# Altium footprint library inductor.PcbLib: 48 footprints (part 2 of 3)
Each footprint in its own frame and in the unit in brackets; x right, y up, seen from the top. Pads: shape width x height; smd on the part's side, far side on the other; paste and mask are expansions set on the pad; w line width, h text height; cw(c..) or ccw(c..) is an arc to the next point about the centre after c.
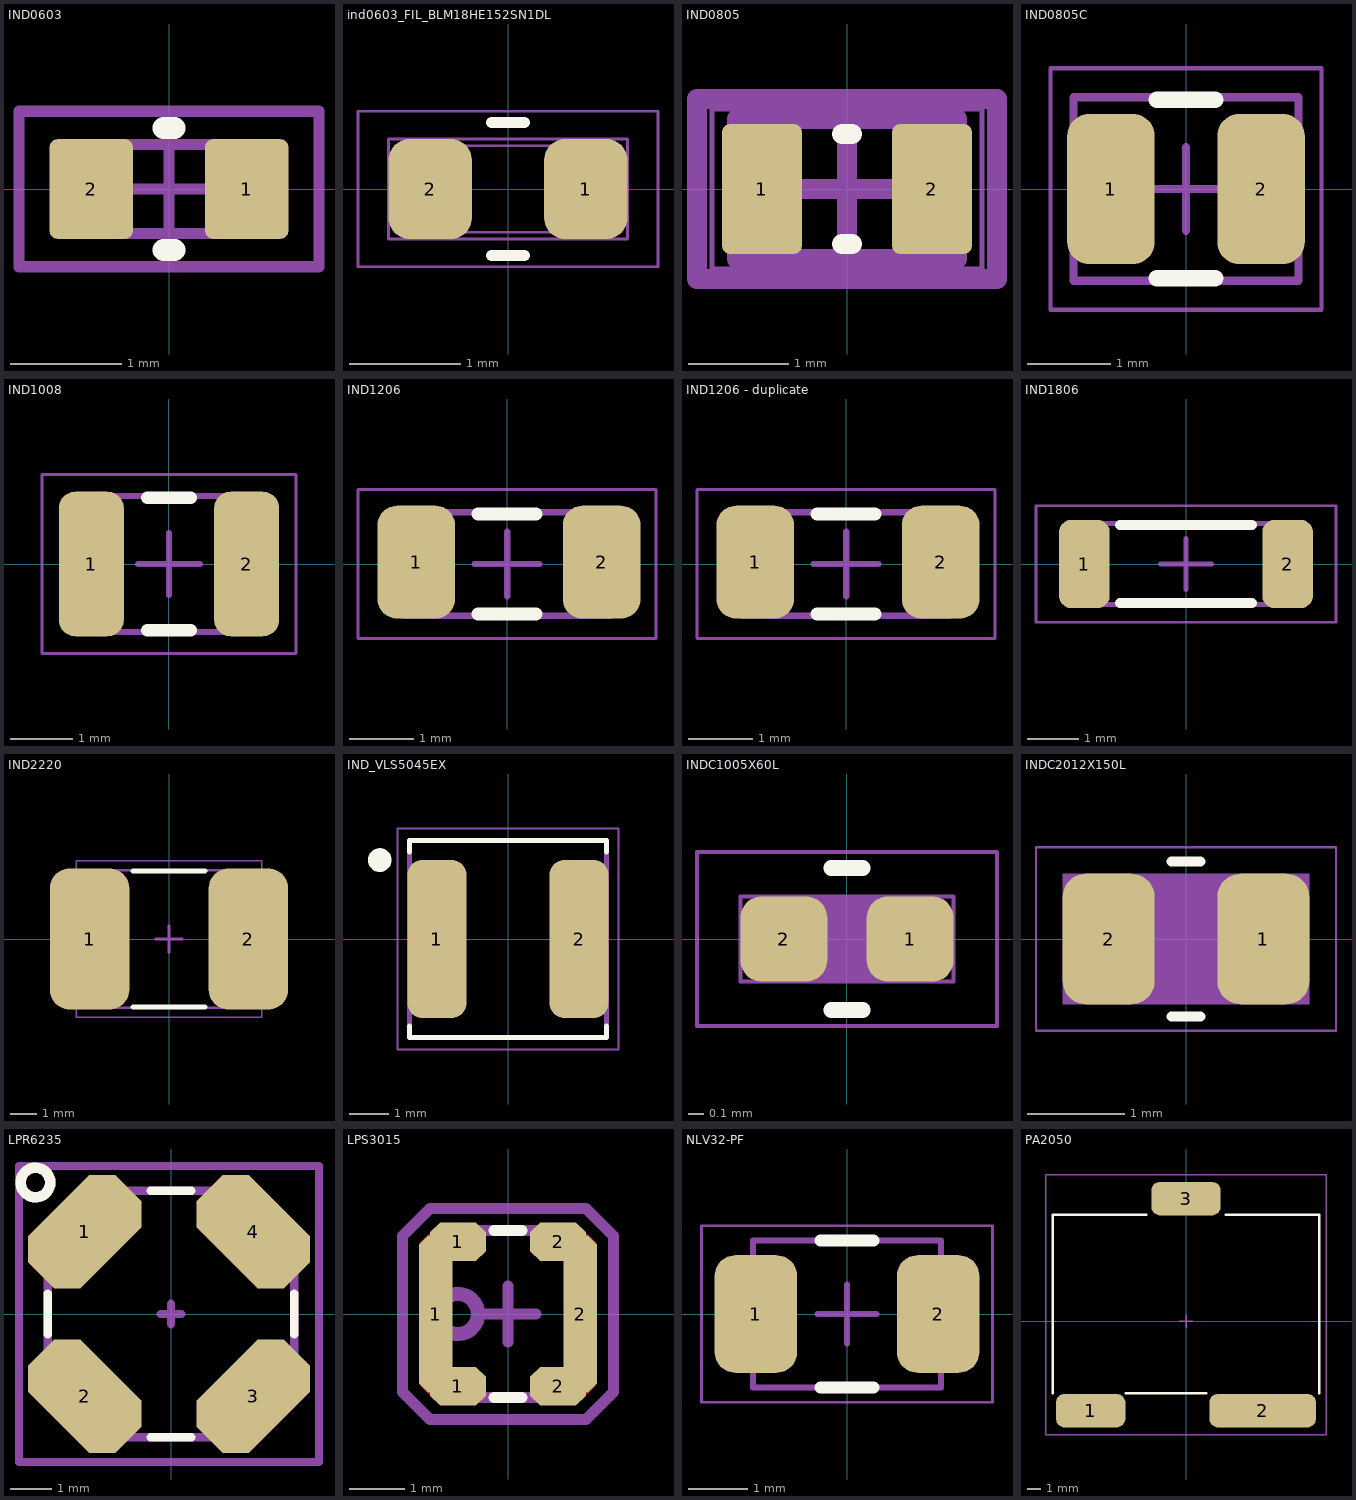
[diagram p1: the footprints below, top view; thin cyan lines are the x and y axes]

## IND0603 [mm]
pads (2):
  rrect20% 0.75x0.9 smd: 1(0.7,0) 2(-0.7,0)
Top Overlay:
  lines w0.2: -0.05,-0.55 0.05,-0.55 -0.05,-0.55 ; -0.05,0.55 0.05,0.55 -0.05,0.55
M3_comm_top:
  text ".comment" at -0.9,-0.3 h1
M5_asm_top:
  lines w0.1: -0.9,-0.4 -0.9,0.4 0.9,0.4 0.9,-0.4 -0.9,-0.4
  text ".Designator" at -1,1.3 h1
M7_courtyard_top:
  lines w0.1: -0.5,0 0.5,0 ; 0,-0.5 0,0.5 ; -1.35,-0.7 -1.35,0.7 1.35,0.7 1.35,-0.7 -1.35,-0.7
3D body "INDC1608X___.step": height 0.5, standoff 0, extent -0.8,-0.4 0.8,0.4

## ind0603_FIL_BLM18HE152SN1DL [mm] "FIL_BLM18HE152SN1DL"
pads (2):
  rrect50% 0.75x0.9 smd: 1(0.7,0) 2(-0.7,0)
Top Overlay:
  lines w0.1: -0.15,-0.6 0.15,-0.6 ; -0.15,0.6 0.15,0.6
M11_dimension:
  text "2" at -0.7,0.08 h0.2
  text "1" at 0.7,0.08 h0.2
Mechanical 16:
  lines w0.025: -0.8,-0.4 -0.45,-0.4 ; -0.8,-0.4 -0.8,0.4 ; -0.8,-0.4 -0.45,-0.4 ; -0.8,-0.4 -0.8,0.4 ; -0.8,0.4 -0.45,0.4 ; -0.8,0.4 -0.45,0.4 ; -0.45,-0.4 -0.45,0.4 ; -0.45,-0.4 -0.45,0.4 ; -0.45,-0.39 0.45,-0.39 ; -0.45,-0.39 -0.45,0.39 ; -0.45,-0.39 0.45,-0.39 ; -0.45,-0.39 -0.45,0.39 ; -0.45,0.39 0.45,0.39 ; -0.45,0.39 0.45,0.39 ; 0.45,-0.4 0.8,-0.4 ; 0.45,-0.4 0.45,0.4 ; 0.45,-0.4 0.8,-0.4 ; 0.45,-0.4 0.45,0.4 ; 0.45,-0.39 0.45,0.39 ; 0.45,-0.39 0.45,0.39 ; 0.45,0.4 0.8,0.4 ; 0.45,0.4 0.8,0.4 ; 0.8,-0.4 0.8,0.4 ; 0.8,-0.4 0.8,0.4 ; -1.35,-0.7 -1.35,0.7 1.35,0.7 1.35,-0.7 -1.35,-0.7 ; -1.075,-0.45 1.075,-0.45 1.075,0.45 -1.075,0.45 -1.075,-0.45
Mechanical 17:
  text "COPYRIGHTS 2011 @ DYNAMIC-PRECISION" at 2.95,-0.9 h0.2
Mechanical 18:
  text "ROBERT GABRYSIAK" at 1.4,-0.26 h0.2
Mechanical 19:
  text "JOHAN ANDERSSON" at 1.36,0.02 h0.2
Mechanical 20:
  text "2009-09-17" at 0.84,0.33 h0.2
3D body "INDC1608X___.step": height 0.5, standoff 0, extent -0.8,-0.4 0.8,0.4

## IND0805 [mm] "Chip Resistor, IPC High Density"
height 0.5
pads (2):
  rrect20% 0.8x1.3 smd mask+0.05: 1(-0.85,0) 2(0.85,0)
Top Overlay:
  lines w0.2: -0.05,-0.55 0.05,-0.55 -0.05,-0.55 ; -0.05,0.55 0.05,0.55 -0.05,0.55
M3_comm_top:
  text ".comment" at -0.9,-0.3 h1
M5_asm_top:
  lines w0.2: -1.1,-0.7 -1.1,0.7 1.1,0.7 1.1,-0.7 -1.1,-0.7
  text ".Designator" at -1,1.3 h1
M7_courtyard_top:
  lines w0.2: -0.5,0 0.5,0 ; 0,-0.5 0,0.5 ; -1.5,-0.9 -1.5,0.9 1.5,0.9 1.5,-0.9 -1.5,-0.9
Mechanical 13:
  lines w0.1: -1.1,-0.7 -1.1,0.7 1.1,0.7 1.1,-0.7 -1.1,-0.7
Mechanical 15:
  lines w0.05: -1.35,-0.8 -1.35,0.8 1.35,0.8 1.35,-0.8 -1.35,-0.8
  lines w0.1: -0.5,0 0.5,0 ; 0,-0.5 0,0.5
3D body "User Library-User Library-Chip InductorINDC2012X130N.step": height 1.2, standoff 0, extent -1,-0.65 1,0.65

## IND0805C [mm] "744760218C, CW201212-R18J"
height 1
pads (2):
  rrect50% 1.05x1.8 smd: 1(-0.9,0) 2(0.9,0)
Top Overlay:
  lines w0.2: -0.35,-1.07 0.35,-1.07 ; -0.35,1.07 0.35,1.07
Mechanical 13:
  lines w0.1: -1.35,-1.1 1.35,-1.1 1.35,1.1 -1.35,1.1 -1.35,-1.1
Mechanical 15:
  lines w0.05: -1.625,-1.45 1.625,-1.45 1.625,1.45 -1.625,1.45 -1.625,-1.45
  lines w0.1: -0.5,0 0.5,0 ; 0,-0.5 0,0.5
3D body "WE-KI-0805C-rev1.stp": height 1.31, standoff -0.01, extent -1.14,-0.85 1.14,0.85

## IND1008 [mm] "1008 (2520 Metric), IPC Medium Density"
height 1
pads (2):
  rrect50% 1.05x2.34 smd: 1(-1.255,0) 2(1.255,0)
Top Overlay:
  lines w0.2: -0.35,-1.07 0.35,-1.07 ; -0.35,1.07 0.35,1.07
Mechanical 13:
  lines w0.1: -1.35,-1.1 1.35,-1.1 1.35,1.1 -1.35,1.1 -1.35,-1.1
Mechanical 15:
  lines w0.05: -2.05,-1.45 2.05,-1.45 2.05,1.45 -2.05,1.45 -2.05,-1.45
  lines w0.1: -0.5,0 0.5,0 ; 0,-0.5 0,0.5
3D body "IND1008.step": height 1, standoff 0, extent -1.35,-1.1 1.35,1.1

## IND1206 [mm] "Chip Inductor, IPC Medium Density"
height 1.1
pads (2):
  rrect50% 1.2x1.74 smd: 1(-1.4,0.03) 2(1.46,0.03)
Top Overlay:
  lines w0.2: -0.45,-0.77 0.45,-0.77 ; -0.45,0.77 0.45,0.77
Mechanical 13:
  lines w0.1: -1.6,-0.8 1.6,-0.8 1.6,0.8 -1.6,0.8 -1.6,-0.8
Mechanical 15:
  lines w0.05: -2.3,-1.15 2.3,-1.15 2.3,1.15 -2.3,1.15 -2.3,-1.15
  lines w0.1: -0.5,0 0.5,0 ; 0,-0.5 0,0.5
3D body: height 1.1, standoff 0, extent -0.87,-0.77 0.93,0.83
3D body: height 1.1, standoff 0, extent 0.93,-0.77 1.63,0.83
3D body: height 1.1, standoff 0, extent -1.57,-0.77 -0.87,0.83

## IND1206 - duplicate [mm] "Chip Inductor, IPC Medium Density"
height 1.1
pads (2):
  rrect50% 1.2x1.74 smd: 1(-1.4,0.03) 2(1.46,0.03)
Top Overlay:
  lines w0.2: -0.45,-0.77 0.45,-0.77 ; -0.45,0.77 0.45,0.77
Mechanical 13:
  lines w0.1: -1.6,-0.8 -1.6,0.8 1.6,0.8 1.6,-0.8 -1.6,-0.8
Mechanical 15:
  lines w0.05: -2.3,-1.15 -2.3,1.15 2.3,1.15 2.3,-1.15 -2.3,-1.15
  lines w0.1: -0.5,0 0.5,0 ; 0,-0.5 0,0.5
3D body: height 1.1, standoff 0, extent -1.57,-0.77 -0.87,0.83
3D body: height 1.1, standoff 0, extent 0.93,-0.77 1.63,0.83
3D body: height 1.1, standoff 0, extent -0.87,-0.77 0.93,0.83

## IND1806 [mm] "Chip Inductor, IPC Medium Density"
height 1.6
pads (2):
  rrect50% 1x1.74 smd: 1(-2,0) 2(2,0)
Top Overlay:
  lines w0.2: -1.3,-0.77 1.3,-0.77 ; -1.3,0.77 1.3,0.77
Mechanical 13:
  lines w0.1: -2.25,-0.8 2.25,-0.8 2.25,0.8 -2.25,0.8 -2.25,-0.8
Mechanical 15:
  lines w0.05: -2.95,-1.15 2.95,-1.15 2.95,1.15 -2.95,1.15 -2.95,-1.15
  lines w0.1: -0.5,0 0.5,0 ; 0,-0.5 0,0.5
3D body "1806.step": height 1.65, standoff 0.05, extent -2.25,-0.8 2.25,0.8

## IND2220 [mm] "Chip Inductor, IPC Medium Density"
height 3.5
pads (2):
  rrect50% 3x5.34 smd: 1(-3,0) 2(3,0)
Top Overlay:
  lines w0.2: -1.35,-2.57 1.35,-2.57 ; -1.35,2.57 1.35,2.57
Mechanical 13:
  lines w0.1: -2.8,-2.6 -2.8,2.6 2.8,2.6 2.8,-2.6 -2.8,-2.6
Mechanical 15:
  lines w0.05: -3.5,-2.95 -3.5,2.95 3.5,2.95 3.5,-2.95 -3.5,-2.95
  lines w0.1: -0.5,0 0.5,0 ; 0,-0.5 0,0.5
3D body "2220.step": height 1.8, standoff 0, extent -2.85,-2.5 2.85,2.5

## IND_VLS5045EX [mm]
pads (2):
  rrect50% 1.5x4 smd: 1(-1.8,0) 2(1.8,0)
Top Overlay:
  circle w0.3: c-3.25,2 r0.15
  lines w0.127: -2.5,-2.2 -2.5,-2.5 2.5,-2.5 2.5,-2.2 ; -2.5,2.2 -2.5,2.5 2.5,2.5 2.5,2.2
M1_3D_TOP:
  lines w0.05: -2.8,-2.8 2.8,-2.8 2.8,2.8 -2.8,2.8 -2.8,-2.8
  lines w0.127: -2.5,-2.5 2.5,-2.5 2.5,2.5 -2.5,2.5 -2.5,-2.5
3D body: height 4.5, standoff 0, extent -2.5,-2.5 2.5,2.5

## INDC1005X60L [mm] "INDC1005X60L"
pads (2):
  rrect50% 0.55x0.54 smd: 1(0.4,0) 2(-0.4,0)
Top Overlay:
  lines w0.1: -0.1,-0.45 0.1,-0.45 ; -0.1,0.45 0.1,0.45
M11_dimension:
  text "1" at 0.39,0.13 h0.2
  text "2" at -0.4,0.14 h0.2
Mechanical 16:
  region: 0.5,-0.25 0.5,0.25 -0.5,0.25 -0.5,-0.25
  lines w0.025: -0.25,-0.25 -0.25,0.25 ; -0.25,-0.25 -0.2,-0.25 0.2,-0.25 0.25,-0.25 ; -0.25,-0.25 -0.5,-0.25 -0.5,0.25 -0.25,0.25 ; -0.25,0.25 -0.2,0.25 0.2,0.25 0.25,0.25 ; 0.25,-0.25 0.25,0.25 ; 0.25,-0.25 0.5,-0.25 0.5,0.25 0.25,0.25 ; -0.95,-0.55 -0.95,0.55 0.95,0.55 0.95,-0.55 -0.95,-0.55 ; -0.675,-0.27 0.675,-0.27 0.675,0.27 -0.675,0.27 -0.675,-0.27
Mechanical 17:
  text "COPYRIGHTS 2011 @ DYNAMIC PRECISION" at 2.975,-0.65 h0.2
Mechanical 18:
  text "ROBERT GABRYSIAK" at 1.3,-0.21 h0.2
Mechanical 19:
  text "JOHAN ANDERSSON" at 1.3,0.04 h0.2
Mechanical 20:
  text "2009-09-17" at 0.83,0.35 h0.2
3D body "INDC1005X___.step": height 0.5, standoff 0, extent -0.5,-0.25 0.5,0.25

## INDC2012X150L [mm] "INDC2012X150L"
pads (2):
  rrect50% 0.95x1.35 smd: 1(0.8,0) 2(-0.8,0)
Top Overlay:
  lines w0.1: -0.15,-0.8 0.15,-0.8 ; -0.15,0.8 0.15,0.8
M11_dimension:
  text "2" at -0.88,0 h0.2
  text "1" at 0.72,0 h0.2
Mechanical 16:
  pour cut-out: 1.275,0.675 1.275,-0.675 -1.275,-0.675 -1.275,0.675
  region: 1,-0.625 1,0.625 -1,0.625 -1,-0.625
  lines w0.025: -0.5,-0.625 -0.5,0.625 ; 0.5,-0.625 0.5,0.625 ; -1.55,-0.95 -1.55,0.95 1.55,0.95 1.55,-0.95 -1.55,-0.95 ; -1,-0.625 -1,0.625 -0.6,0.625 0.6,0.625 1,0.625 1,-0.625 0.6,-0.625 -0.6,-0.625 -1,-0.625
Mechanical 17:
  text "COPYRIGHTS 2011 @ DYNAMIC PRECISION" at 2.975,-1.05 h0.2
Mechanical 18:
  text "ROBERT GABRYSIAK" at 1.39,-0.35 h0.2
Mechanical 19:
  text "JOHAN ANDERSSON" at 1.29,-0.03 h0.2
Mechanical 20:
  text "2009-09-18" at 1.41,0.8 h0.2
3D body "INDC2012X___.step": height 1.25, standoff 0, extent -1,-0.625 1,0.625

## LPR6235 [mm] "LPR6235"
height 1.4
pads (4):
  oct 1.8x3 smd rot 135: 1(-2.1,2) 3(2,-2)
  oct 1.8x3 smd rot 45: 2(-2.1,-2) 4(2,2)
Top Overlay:
  circle w0.254: c-3.3,3.2 r0.361
  lines w0.2: -3,-0.5 -3,0.5 ; -0.5,-3 0.5,-3 ; -0.5,3 0.5,3 ; 3,-0.5 3,0.5
M3_comm_top:
  text ".comment" at -0.9,-0.3 h1
M5_asm_top:
  circle w0.254: c-3.3,3.2 r0.361
  lines w0.2: -3,-2.1 -3,2.1 ; -3,-2.1 -2.1,-3 ; -3,-2.1 -2.1,-3 ; -3,2.1 -2.1,3 ; -3,2.1 -2.1,3 ; -2.1,-3 2.1,-3 3,-2.1 3,2.1 ; -2.1,3 2.1,3 ; 2.1,3 3,2.1 ; 2.1,3 3,2.1
  text ".Designator" at -1,4 h1
M7_courtyard_top:
  lines w0.2: -0.25,0 0.25,0 ; 0,-0.25 0,0.25 ; -3.7,-3.6 3.6,-3.6 3.6,3.6 -3.7,3.6 -3.7,-3.6
3D body "Coilcraft-LPR6235.step": height 3.35, standoff -0.15, extent -3.072,-3.037 3.008,3.043

## LPS3015 [mm] "LPS3015"
pads (6):
  oct 0.6x2.8 smd: 1(-1.3,0) 2(1.3,0)
  oct 1x0.7 smd: 1(-0.9,-1.3) 1(-0.9,1.3) 2(0.9,-1.3) 2(0.9,1.3)
Top Layer:
  lines w0.2: -1.5,-1.225 -1.2,-1.525 ; -1.5,1.225 -1.2,1.525 ; 1.2,-1.525 1.5,-1.225 ; 1.2,1.525 1.5,1.225
Top Overlay:
  lines w0.2: -0.25,-1.5 0.25,-1.5 ; -0.25,1.5 0.25,1.5
M3_comm_top:
  text ".comment" at -0.9,-0.3 h1
M5_asm_top:
  circle w0.254: c-0.9,0 r0.361
  lines w0.2: -1.5,-1 -1.5,1 -1,1.5 1,1.5 1.5,1 1.5,-1 1,-1.5 -1,-1.5 -1.5,-1
  text ".Designator" at -1.4,2 h1
M7_courtyard_top:
  lines w0.2: -0.5,0 0.5,0 ; 0,-0.5 0,0.5 ; -1.9,-1.4 -1.4,-1.9 1.4,-1.9 1.9,-1.4 1.9,1.4 1.4,1.9 -1.4,1.9 -1.9,1.4 -1.9,-1.4
Mechanical 32:
  text "1" at -1.65,0.254 h0.64
3D body "Coilcraft-LPS3015.step": height 1.5, standoff 0, extent -1.515,-1.515 1.515,1.515

## NLV32-PF [mm] "SMD, ND, IPC Medium Density"
height 2.2
pads (2):
  rrect50% 1.4x2 smd mask+0.05: 1(-1.55,0) 2(1.55,0)
Top Overlay:
  lines w0.2: -0.45,-1.25 0.45,-1.25 ; -0.45,1.25 0.45,1.25
Mechanical 13:
  lines w0.1: -1.6,-1.25 1.6,-1.25 1.6,1.25 -1.6,1.25 -1.6,-1.25
Mechanical 15:
  lines w0.05: -2.475,-1.5 2.475,-1.5 2.475,1.5 -2.475,1.5 -2.475,-1.5
  lines w0.1: -0.5,0 0.5,0 ; 0,-0.5 0,0.5
3D body: height 2.2, standoff 0, extent -1.6,-1.25 1.6,1.25

## PA2050 [mm] "Chip Inductor, IPC Medium Density"
height 1.6
pads (3):
  rrect50% 5.2x2.5 smd: 1(-7.15,-6.7) 3(0,9.2)
  rrect50% 8x2.5 smd: 2(5.75,-6.7)
Top Overlay:
  lines w0.2: -10,-5.4 -10,8 -3,8 ; -4.5,-5.4 1.5,-5.4 ; 3,8 10,8 10,-5.4
Mechanical 13:
  lines w0.1: -10.5,-8.5 10.5,-8.5 10.5,11 -10.5,11 -10.5,-8.5
Mechanical 15:
  lines w0.05: -10.5,-8.5 10.5,-8.5 10.5,11 -10.5,11 -10.5,-8.5
  lines w0.1: -0.5,0 0.5,0 ; 0,-0.5 0,0.5
3D body: height 12.2, standoff 0.1, extent -10.5,-8.5 10.5,11